# Altium footprint library DIODE_DPAK(TO-252).PcbLib: 1 footprints
Each footprint in its own frame and in the unit in brackets; x right, y up, seen from the top. Pads: shape width x height; smd on the part's side, far side on the other; paste and mask are expansions set on the pad; w line width, h text height; cw(c..) or ccw(c..) is an arc to the next point about the centre after c.
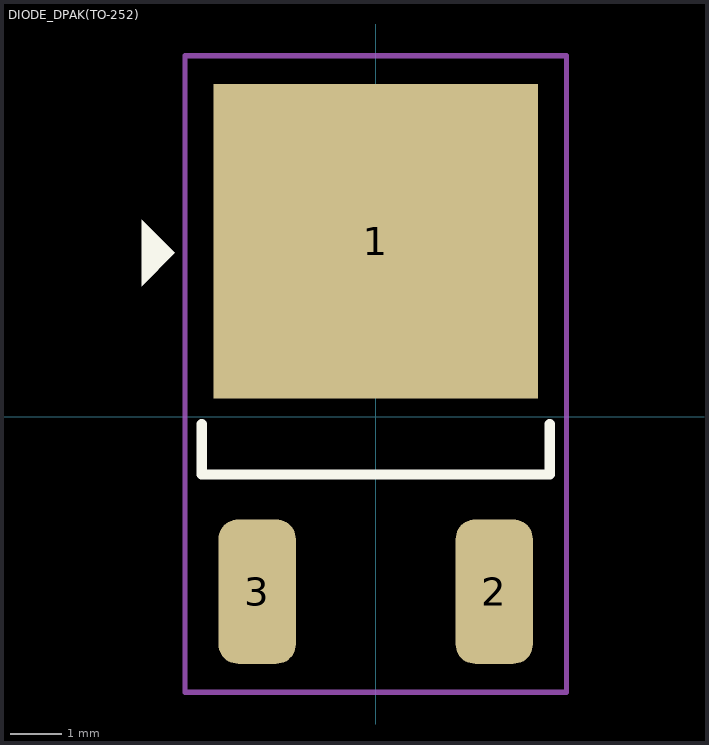
[diagram p0: the footprint, top view; thin cyan lines are the x and y axes]

## DIODE_DPAK(TO-252) [mm]
pads (3):
  rect 6.3x6.1 smd: 1(0,3.4)
  rrect50% 1.5x2.8 smd: 2(2.3,-3.4) 3(-2.3,-3.4)
Top Overlay:
  region: -4.544,2.531 -3.9,3.175 -4.544,3.819
  lines w0.2: -3.375,-0.15 -3.375,-1.125 3.375,-1.125 3.375,-0.15
Top Courtyard:
  lines w0.1: -3.7,-5.35 3.7,-5.35 3.7,7 -3.7,7 -3.7,-5.35
3D body "User Library-DPAK_TO-252AA.step": height 2.37, standoff -0.03, extent -3.367,-4.098 3.367,6.002